# Altium footprint library 66200621022.PcbLib: 1 footprints
Each footprint in its own frame and in the unit in brackets; x right, y up, seen from the top. Pads: shape width x height; smd on the part's side, far side on the other; paste and mask are expansions set on the pad; w line width, h text height; cw(c..) or ccw(c..) is an arc to the next point about the centre after c.
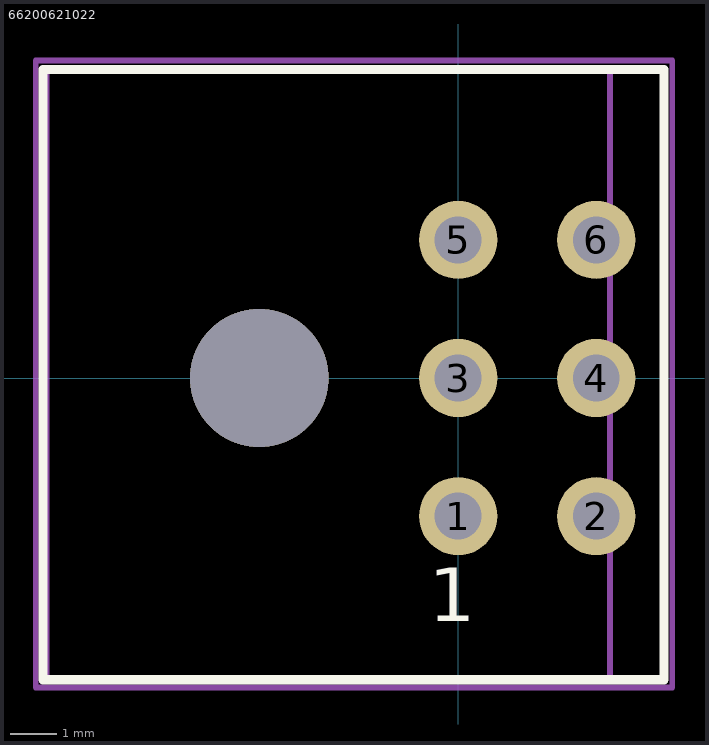
[diagram p0: the footprint, top view; thin cyan lines are the x and y axes]

## 66200621022 [mm] "Molex 3.0mm MicroFit 2x3 Male Connector"
pads (6):
  round 1.7 hole 1.02: 1(0,-3) 2(3,-3) 3(0,0) 4(3,0) 5(0,3) 6(3,3)
via -4.32,0 diameter 3 hole 3
Top Overlay:
  lines w0.2: -9.017,-6.556 -9.017,6.7 4.475,6.7 4.475,-6.556 -9.017,-6.556
  text "1" at -0.637,-5.666 h2
Top Courtyard:
  lines w0.127: -9.175,-6.725 -9.175,6.9 4.65,6.9 4.65,-6.725 -9.175,-6.725
Top Assembly:
  lines w0.127: -8.938,-6.556 -8.938,6.675 3.302,6.675 3.302,-6.556 -8.938,-6.556
3D body "62000621022.stp": height 8.79, standoff -3.17, extent -8.95,-6.35 3.27,6.35